# Altium schematic symbol library WE-CBF_0603.SchLib: 40 symbols
Pins are listed as number, name and electrical type; pins without a type are passive.

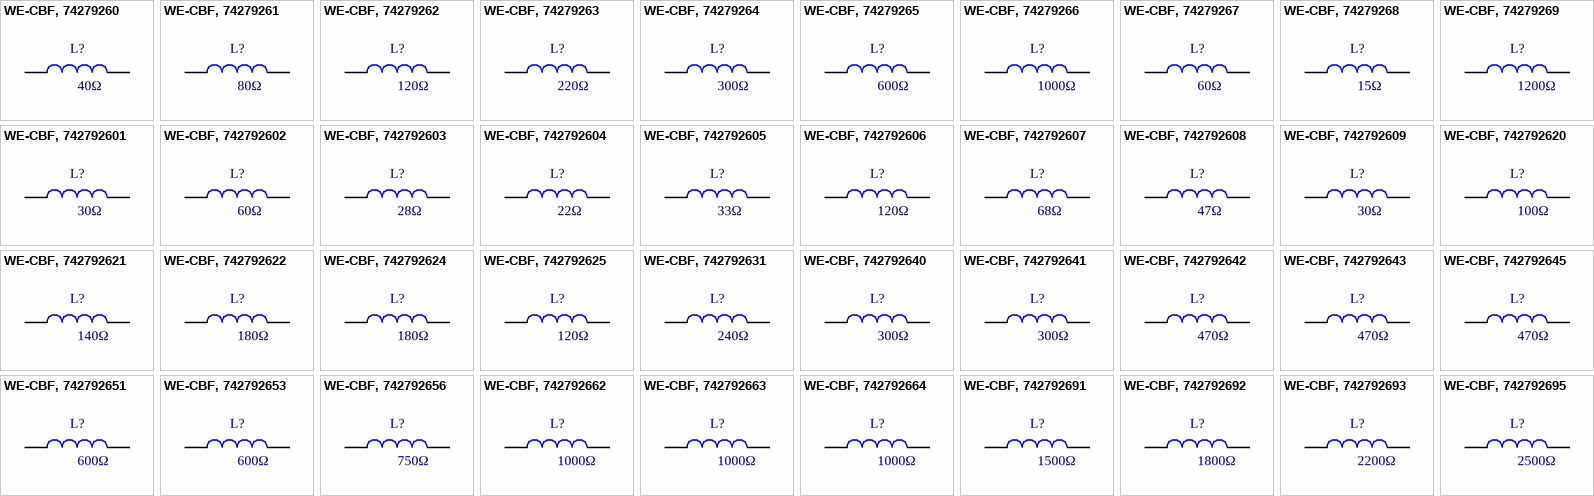
[diagram p0: symbols WE-CBF, 74279260 to WE-CBF, 742792695]

## WE-CBF, 74279260
designator L?, comment 40Ω
WE-CBF SMD EMI Suppression Ferrite Bead, 0603, 40Ω; PartNumber: 74279260; Type: High Speed; PublishedDate: Aug 2016; Publisher: Wurth Elektronik; ComponentLink1Description: Manufacturer; ComponentLink1URL: http://www.we-online.de; ComponentLink2Description: Datasheet; ComponentLink2URL: http://katalog.we-online.de/pbs/datasheet/74279260.pdf; Value: 40Ω; Size: 0603
footprint WE-CBF_0603_High Speed
pins: 1, 2

## WE-CBF, 74279261
designator L?, comment 80Ω
WE-CBF SMD EMI Suppression Ferrite Bead, 0603, 80Ω; PartNumber: 74279261; Type: High Speed; PublishedDate: Aug 2016; Publisher: Wurth Elektronik; ComponentLink1Description: Manufacturer; ComponentLink1URL: http://www.we-online.de; ComponentLink2Description: Datasheet; ComponentLink2URL: http://katalog.we-online.de/pbs/datasheet/74279261.pdf; Value: 80Ω; Size: 0603
footprint WE-CBF_0603_High Speed
pins: 1, 2

## WE-CBF, 74279262
designator L?, comment 120Ω
WE-CBF SMD EMI Suppression Ferrite Bead, 0603, 120Ω; PartNumber: 74279262; Type: Wide Band; PublishedDate: Aug 2016; Publisher: Wurth Elektronik; ComponentLink1Description: Manufacturer; ComponentLink1URL: http://www.we-online.de; ComponentLink2Description: Datasheet; ComponentLink2URL: http://katalog.we-online.de/pbs/datasheet/74279262.pdf; Value: 120Ω; Size: 0603
footprint WE-CBF_0603_Wide Band
pins: 1, 2

## WE-CBF, 74279263
designator L?, comment 220Ω
WE-CBF SMD EMI Suppression Ferrite Bead, 0603, 220Ω; PartNumber: 74279263; Type: Wide Band; PublishedDate: Aug 2016; Publisher: Wurth Elektronik; ComponentLink1Description: Manufacturer; ComponentLink1URL: http://www.we-online.de; ComponentLink2Description: Datasheet; ComponentLink2URL: http://katalog.we-online.de/pbs/datasheet/74279263.pdf; Value: 220Ω; Size: 0603
footprint WE-CBF_0603_Wide Band
pins: 1, 2

## WE-CBF, 74279264
designator L?, comment 300Ω
WE-CBF SMD EMI Suppression Ferrite Bead, 0603, 300Ω; PartNumber: 74279264; Type: High Speed; PublishedDate: Aug 2016; Publisher: Wurth Elektronik; ComponentLink1Description: Manufacturer; ComponentLink1URL: http://www.we-online.de; ComponentLink2Description: Datasheet; ComponentLink2URL: http://katalog.we-online.de/pbs/datasheet/74279264.pdf; Value: 300Ω; Size: 0603
footprint WE-CBF_0603_High Speed
pins: 1, 2

## WE-CBF, 74279265
designator L?, comment 600Ω
WE-CBF SMD EMI Suppression Ferrite Bead, 0603, 600Ω; PartNumber: 74279265; Type: Wide Band; PublishedDate: Aug 2016; Publisher: Wurth Elektronik; ComponentLink1Description: Manufacturer; ComponentLink1URL: http://www.we-online.de; ComponentLink2Description: Datasheet; ComponentLink2URL: http://katalog.we-online.de/pbs/datasheet/74279265.pdf; Value: 600Ω; Size: 0603
footprint WE-CBF_0603_Wide Band
pins: 1, 2

## WE-CBF, 74279266
designator L?, comment 1000Ω
WE-CBF SMD EMI Suppression Ferrite Bead, 0603, 1000Ω; PartNumber: 74279266; Type: Wide Band; PublishedDate: Aug 2016; Publisher: Wurth Elektronik; ComponentLink1Description: Manufacturer; ComponentLink1URL: http://www.we-online.de; ComponentLink2Description: Datasheet; ComponentLink2URL: http://katalog.we-online.de/pbs/datasheet/74279266.pdf; Value: 1000Ω; Size: 0603
footprint WE-CBF_0603_Wide Band
pins: 1, 2

## WE-CBF, 74279267
designator L?, comment 60Ω
WE-CBF SMD EMI Suppression Ferrite Bead, 0603, 60Ω; PartNumber: 74279267; Type: High Speed; PublishedDate: Aug 2016; Publisher: Wurth Elektronik; ComponentLink1Description: Manufacturer; ComponentLink1URL: http://www.we-online.de; ComponentLink2Description: Datasheet; ComponentLink2URL: http://katalog.we-online.de/pbs/datasheet/74279267.pdf; Value: 60Ω; Size: 0603
footprint WE-CBF_0603_High Speed
pins: 1, 2

## WE-CBF, 74279268
designator L?, comment 15Ω
WE-CBF SMD EMI Suppression Ferrite Bead, 0603, 15Ω; PartNumber: 74279268; Type: High Speed; PublishedDate: Aug 2016; Publisher: Wurth Elektronik; ComponentLink1Description: Manufacturer; ComponentLink1URL: http://www.we-online.de; ComponentLink2Description: Datasheet; ComponentLink2URL: http://katalog.we-online.de/pbs/datasheet/74279268.pdf; Value: 15Ω; Size: 0603
footprint WE-CBF_0603_High Speed
pins: 1, 2

## WE-CBF, 74279269
designator L?, comment 1200Ω
WE-CBF SMD EMI Suppression Ferrite Bead, 0603, 1200Ω; PartNumber: 74279269; Type: Wide Band; PublishedDate: Aug 2016; Publisher: Wurth Elektronik; ComponentLink1Description: Manufacturer; ComponentLink1URL: http://www.we-online.de; ComponentLink2Description: Datasheet; ComponentLink2URL: http://katalog.we-online.de/pbs/datasheet/74279269.pdf; Value: 1200Ω; Size: 0603
footprint WE-CBF_0603_Wide Band
pins: 1, 2

## WE-CBF, 742792601
designator L?, comment 30Ω
WE-CBF SMD EMI Suppression Ferrite Bead, 0603, 30Ω; PartNumber: 742792601; Type: High Current; PublishedDate: Aug 2016; Publisher: Wurth Elektronik; ComponentLink1Description: Manufacturer; ComponentLink1URL: http://www.we-online.de; ComponentLink2Description: Datasheet; ComponentLink2URL: http://katalog.we-online.de/pbs/datasheet/742792601.pdf; Value: 30Ω; Size: 0603
footprint WE-CBF_0603_High Current
pins: 1, 2

## WE-CBF, 742792602
designator L?, comment 60Ω
WE-CBF SMD EMI Suppression Ferrite Bead, 0603, 60Ω; PartNumber: 742792602; Type: High Current; PublishedDate: Aug 2016; Publisher: Wurth Elektronik; ComponentLink1Description: Manufacturer; ComponentLink1URL: http://www.we-online.de; ComponentLink2Description: Datasheet; ComponentLink2URL: http://katalog.we-online.de/pbs/datasheet/742792602.pdf; Value: 60Ω; Size: 0603
footprint WE-CBF_0603_High Current
pins: 1, 2

## WE-CBF, 742792603
designator L?, comment 28Ω
WE-CBF SMD EMI Suppression Ferrite Bead, 0603, 28Ω; PartNumber: 742792603; Type: High Current; PublishedDate: Aug 2016; Publisher: Wurth Elektronik; ComponentLink1Description: Manufacturer; ComponentLink1URL: http://www.we-online.de; ComponentLink2Description: Datasheet; ComponentLink2URL: http://katalog.we-online.de/pbs/datasheet/742792603.pdf; Value: 28Ω; Size: 0603
footprint WE-CBF_0603_High Current
pins: 1, 2

## WE-CBF, 742792604
designator L?, comment 22Ω
WE-CBF SMD EMI Suppression Ferrite Bead, 0603, 22Ω; PartNumber: 742792604; Type: High Current; PublishedDate: Aug 2016; Publisher: Wurth Elektronik; ComponentLink1Description: Manufacturer; ComponentLink1URL: http://www.we-online.de; ComponentLink2Description: Datasheet; ComponentLink2URL: http://katalog.we-online.de/pbs/datasheet/742792604.pdf; Value: 22Ω; Size: 0603
footprint WE-CBF_0603_High Current
pins: 1, 2

## WE-CBF, 742792605
designator L?, comment 33Ω
WE-CBF SMD EMI Suppression Ferrite Bead, 0603, 33Ω; PartNumber: 742792605; Type: High Speed; PublishedDate: Aug 2016; Publisher: Wurth Elektronik; ComponentLink1Description: Manufacturer; ComponentLink1URL: http://www.we-online.de; ComponentLink2Description: Datasheet; ComponentLink2URL: http://katalog.we-online.de/pbs/datasheet/742792605.pdf; Value: 33Ω; Size: 0603
footprint WE-CBF_0603_High Speed
pins: 1, 2

## WE-CBF, 742792606
designator L?, comment 120Ω
WE-CBF SMD EMI Suppression Ferrite Bead, 0603, 120Ω; PartNumber: 742792606; Type: High Speed; PublishedDate: Aug 2016; Publisher: Wurth Elektronik; ComponentLink1Description: Manufacturer; ComponentLink1URL: http://www.we-online.de; ComponentLink2Description: Datasheet; ComponentLink2URL: http://katalog.we-online.de/pbs/datasheet/742792606.pdf; Value: 120Ω; Size: 0603
footprint WE-CBF_0603_High Speed
pins: 1, 2

## WE-CBF, 742792607
designator L?, comment 68Ω
WE-CBF SMD EMI Suppression Ferrite Bead, 0603, 68Ω; PartNumber: 742792607; Type: High Speed; PublishedDate: Aug 2016; Publisher: Wurth Elektronik; ComponentLink1Description: Manufacturer; ComponentLink1URL: http://www.we-online.de; ComponentLink2Description: Datasheet; ComponentLink2URL: http://katalog.we-online.de/pbs/datasheet/742792607.pdf; Value: 68Ω; Size: 0603
footprint WE-CBF_0603_High Speed
pins: 1, 2

## WE-CBF, 742792608
designator L?, comment 47Ω
WE-CBF SMD EMI Suppression Ferrite Bead, 0603, 47Ω; PartNumber: 742792608; Type: High Speed; PublishedDate: Aug 2016; Publisher: Wurth Elektronik; ComponentLink1Description: Manufacturer; ComponentLink1URL: http://www.we-online.de; ComponentLink2Description: Datasheet; ComponentLink2URL: http://katalog.we-online.de/pbs/datasheet/742792608.pdf; Value: 47Ω; Size: 0603
footprint WE-CBF_0603_High Speed
pins: 1, 2

## WE-CBF, 742792609
designator L?, comment 30Ω
WE-CBF SMD EMI Suppression Ferrite Bead, 0603, 30Ω; PartNumber: 742792609; Type: High Current; PublishedDate: Aug 2016; Publisher: Wurth Elektronik; ComponentLink1Description: Manufacturer; ComponentLink1URL: http://www.we-online.de; ComponentLink2Description: Datasheet; ComponentLink2URL: http://katalog.we-online.de/pbs/datasheet/742792609.pdf; Value: 30Ω; Size: 0603
footprint WE-CBF_0603_High Current
pins: 1, 2

## WE-CBF, 742792620
designator L?, comment 100Ω
WE-CBF SMD EMI Suppression Ferrite Bead, 0603, 100Ω; PartNumber: 742792620; Type: Wide Band; PublishedDate: Aug 2016; Publisher: Wurth Elektronik; ComponentLink1Description: Manufacturer; ComponentLink1URL: http://www.we-online.de; ComponentLink2Description: Datasheet; ComponentLink2URL: http://katalog.we-online.de/pbs/datasheet/742792620.pdf; Value: 100Ω; Size: 0603
footprint WE-CBF_0603_Wide Band
pins: 1, 2

## WE-CBF, 742792621
designator L?, comment 140Ω
WE-CBF SMD EMI Suppression Ferrite Bead, 0603, 140Ω; PartNumber: 742792621; Type: High Speed; PublishedDate: Aug 2016; Publisher: Wurth Elektronik; ComponentLink1Description: Manufacturer; ComponentLink1URL: http://www.we-online.de; ComponentLink2Description: Datasheet; ComponentLink2URL: http://katalog.we-online.de/pbs/datasheet/742792621.pdf; Value: 140Ω; Size: 0603
footprint WE-CBF_0603_High Speed
pins: 1, 2

## WE-CBF, 742792622
designator L?, comment 180Ω
WE-CBF SMD EMI Suppression Ferrite Bead, 0603, 180Ω; PartNumber: 742792622; Type: Wide Band; PublishedDate: Aug 2016; Publisher: Wurth Elektronik; ComponentLink1Description: Manufacturer; ComponentLink1URL: http://www.we-online.de; ComponentLink2Description: Datasheet; ComponentLink2URL: http://katalog.we-online.de/pbs/datasheet/742792622.pdf; Value: 180Ω; Size: 0603
footprint WE-CBF_0603_Wide Band
pins: 1, 2

## WE-CBF, 742792624
designator L?, comment 180Ω
WE-CBF SMD EMI Suppression Ferrite Bead, 0603, 180Ω; PartNumber: 742792624; Type: High Current; PublishedDate: Aug 2016; Publisher: Wurth Elektronik; ComponentLink1Description: Manufacturer; ComponentLink1URL: http://www.we-online.de; ComponentLink2Description: Datasheet; ComponentLink2URL: http://katalog.we-online.de/pbs/datasheet/742792624.pdf; Value: 180Ω; Size: 0603
footprint WE-CBF_0603_High Current
pins: 1, 2

## WE-CBF, 742792625
designator L?, comment 120Ω
WE-CBF SMD EMI Suppression Ferrite Bead, 0603, 120Ω; PartNumber: 742792625; Type: High Current; PublishedDate: Aug 2016; Publisher: Wurth Elektronik; ComponentLink1Description: Manufacturer; ComponentLink1URL: http://www.we-online.de; ComponentLink2Description: Datasheet; ComponentLink2URL: http://katalog.we-online.de/pbs/datasheet/742792625.pdf; Value: 120Ω; Size: 0603
footprint WE-CBF_0603_High Current
pins: 1, 2

## WE-CBF, 742792631
designator L?, comment 240Ω
WE-CBF SMD EMI Suppression Ferrite Bead, 0603, 240Ω; PartNumber: 742792631; Type: Wide Band; PublishedDate: Aug 2016; Publisher: Wurth Elektronik; ComponentLink1Description: Manufacturer; ComponentLink1URL: http://www.we-online.de; ComponentLink2Description: Datasheet; ComponentLink2URL: http://katalog.we-online.de/pbs/datasheet/742792631.pdf; Value: 240Ω; Size: 0603
footprint WE-CBF_0603_Wide Band
pins: 1, 2

## WE-CBF, 742792640
designator L?, comment 300Ω
WE-CBF SMD EMI Suppression Ferrite Bead, 0603, 300Ω; PartNumber: 742792640; Type: High Speed; PublishedDate: Aug 2016; Publisher: Wurth Elektronik; ComponentLink1Description: Manufacturer; ComponentLink1URL: http://www.we-online.de; ComponentLink2Description: Datasheet; ComponentLink2URL: http://katalog.we-online.de/pbs/datasheet/742792640.pdf; Value: 300Ω; Size: 0603
footprint WE-CBF_0603_High Speed
pins: 1, 2

## WE-CBF, 742792641
designator L?, comment 300Ω
WE-CBF SMD EMI Suppression Ferrite Bead, 0603, 300Ω; PartNumber: 742792641; Type: High Current; PublishedDate: Aug 2016; Publisher: Wurth Elektronik; ComponentLink1Description: Manufacturer; ComponentLink1URL: http://www.we-online.de; ComponentLink2Description: Datasheet; ComponentLink2URL: http://katalog.we-online.de/pbs/datasheet/742792641.pdf; Value: 300Ω; Size: 0603
footprint WE-CBF_0603_High Current
pins: 1, 2

## WE-CBF, 742792642
designator L?, comment 470Ω
WE-CBF SMD EMI Suppression Ferrite Bead, 0603, 470Ω; PartNumber: 742792642; Type: Wide Band; PublishedDate: Aug 2016; Publisher: Wurth Elektronik; ComponentLink1Description: Manufacturer; ComponentLink1URL: http://www.we-online.de; ComponentLink2Description: Datasheet; ComponentLink2URL: http://katalog.we-online.de/pbs/datasheet/742792642.pdf; Value: 470Ω; Size: 0603
footprint WE-CBF_0603_Wide Band
pins: 1, 2

## WE-CBF, 742792643
designator L?, comment 470Ω
WE-CBF SMD EMI Suppression Ferrite Bead, 0603, 470Ω; PartNumber: 742792643; Type: High Speed; PublishedDate: Aug 2016; Publisher: Wurth Elektronik; ComponentLink1Description: Manufacturer; ComponentLink1URL: http://www.we-online.de; ComponentLink2Description: Datasheet; ComponentLink2URL: http://katalog.we-online.de/pbs/datasheet/742792643.pdf; Value: 470Ω; Size: 0603
footprint WE-CBF_0603_High Speed
pins: 1, 2

## WE-CBF, 742792645
designator L?, comment 470Ω
WE-CBF SMD EMI Suppression Ferrite Bead, 0603, 470Ω; PartNumber: 742792645; Type: High Current; PublishedDate: Aug 2016; Publisher: Wurth Elektronik; ComponentLink1Description: Manufacturer; ComponentLink1URL: http://www.we-online.de; ComponentLink2Description: Datasheet; ComponentLink2URL: http://katalog.we-online.de/pbs/datasheet/742792645.pdf; Value: 470Ω; Size: 0603
footprint WE-CBF_0603_High Current
pins: 1, 2

## WE-CBF, 742792651
designator L?, comment 600Ω
WE-CBF SMD EMI Suppression Ferrite Bead, 0603, 600Ω; PartNumber: 742792651; Type: High Current; PublishedDate: Aug 2016; Publisher: Wurth Elektronik; ComponentLink1Description: Manufacturer; ComponentLink1URL: http://www.we-online.de; ComponentLink2Description: Datasheet; ComponentLink2URL: http://katalog.we-online.de/pbs/datasheet/742792651.pdf; Value: 600Ω; Size: 0603
footprint WE-CBF_0603_High Current
pins: 1, 2

## WE-CBF, 742792653
designator L?, comment 600Ω
WE-CBF SMD EMI Suppression Ferrite Bead, 0603, 600Ω; PartNumber: 742792653; Type: High Speed; PublishedDate: Aug 2016; Publisher: Wurth Elektronik; ComponentLink1Description: Manufacturer; ComponentLink1URL: http://www.we-online.de; ComponentLink2Description: Datasheet; ComponentLink2URL: http://katalog.we-online.de/pbs/datasheet/742792653.pdf; Value: 600Ω; Size: 0603
footprint WE-CBF_0603_High Speed
pins: 1, 2

## WE-CBF, 742792656
designator L?, comment 750Ω
WE-CBF SMD EMI Suppression Ferrite Bead, 0603, 750Ω; PartNumber: 742792656; Type: Wide Band; PublishedDate: Aug 2016; Publisher: Wurth Elektronik; ComponentLink1Description: Manufacturer; ComponentLink1URL: http://www.we-online.de; ComponentLink2Description: Datasheet; ComponentLink2URL: http://katalog.we-online.de/pbs/datasheet/742792656.pdf; Value: 750Ω; Size: 0603
footprint WE-CBF_0603_Wide Band
pins: 1, 2

## WE-CBF, 742792662
designator L?, comment 1000Ω
WE-CBF SMD EMI Suppression Ferrite Bead, 0603, 1000Ω; PartNumber: 742792662; Type: Wide Band; PublishedDate: Aug 2016; Publisher: Wurth Elektronik; ComponentLink1Description: Manufacturer; ComponentLink1URL: http://www.we-online.de; ComponentLink2Description: Datasheet; ComponentLink2URL: http://katalog.we-online.de/pbs/datasheet/742792662.pdf; Value: 1000Ω; Size: 0603
footprint WE-CBF_0603_Wide Band
pins: 1, 2

## WE-CBF, 742792663
designator L?, comment 1000Ω
WE-CBF SMD EMI Suppression Ferrite Bead, 0603, 1000Ω; PartNumber: 742792663; Type: Wide Band; PublishedDate: Aug 2016; Publisher: Wurth Elektronik; ComponentLink1Description: Manufacturer; ComponentLink1URL: http://www.we-online.de; ComponentLink2Description: Datasheet; ComponentLink2URL: http://katalog.we-online.de/pbs/datasheet/742792663.pdf; Value: 1000Ω; Size: 0603
footprint WE-CBF_0603_Wide Band
pins: 1, 2

## WE-CBF, 742792664
designator L?, comment 1000Ω
WE-CBF SMD EMI Suppression Ferrite Bead, 0603, 1000Ω; PartNumber: 742792664; Type: High Speed; PublishedDate: Aug 2016; Publisher: Wurth Elektronik; ComponentLink1Description: Manufacturer; ComponentLink1URL: http://www.we-online.de; ComponentLink2Description: Datasheet; ComponentLink2URL: http://katalog.we-online.de/pbs/datasheet/742792664.pdf; Value: 1000Ω; Size: 0603
footprint WE-CBF_0603_High Speed
pins: 1, 2

## WE-CBF, 742792691
designator L?, comment 1500Ω
WE-CBF SMD EMI Suppression Ferrite Bead, 0603, 1500Ω; PartNumber: 742792691; Type: Wide Band; PublishedDate: Aug 2016; Publisher: Wurth Elektronik; ComponentLink1Description: Manufacturer; ComponentLink1URL: http://www.we-online.de; ComponentLink2Description: Datasheet; ComponentLink2URL: http://katalog.we-online.de/pbs/datasheet/742792691.pdf; Value: 1500Ω; Size: 0603
footprint WE-CBF_0603_Wide Band
pins: 1, 2

## WE-CBF, 742792692
designator L?, comment 1800Ω
WE-CBF SMD EMI Suppression Ferrite Bead, 0603, 1800Ω; PartNumber: 742792692; Type: Wide Band; PublishedDate: Aug 2016; Publisher: Wurth Elektronik; ComponentLink1Description: Manufacturer; ComponentLink1URL: http://www.we-online.de; ComponentLink2Description: Datasheet; ComponentLink2URL: http://katalog.we-online.de/pbs/datasheet/742792692.pdf; Value: 1800Ω; Size: 0603
footprint WE-CBF_0603_Wide Band
pins: 1, 2

## WE-CBF, 742792693
designator L?, comment 2200Ω
WE-CBF SMD EMI Suppression Ferrite Bead, 0603, 2200Ω; PartNumber: 742792693; Type: Wide Band; PublishedDate: Aug 2016; Publisher: Wurth Elektronik; ComponentLink1Description: Manufacturer; ComponentLink1URL: http://www.we-online.de; ComponentLink2Description: Datasheet; ComponentLink2URL: http://katalog.we-online.de/pbs/datasheet/742792693.pdf; Value: 2200Ω; Size: 0603
footprint WE-CBF_0603_Wide Band
pins: 1, 2

## WE-CBF, 742792695
designator L?, comment 2500Ω
WE-CBF SMD EMI Suppression Ferrite Bead, 0603, 2500Ω; PartNumber: 742792695; Type: Wide Band; PublishedDate: Aug 2016; Publisher: Wurth Elektronik; ComponentLink1Description: Manufacturer; ComponentLink1URL: http://www.we-online.de; ComponentLink2Description: Datasheet; ComponentLink2URL: http://katalog.we-online.de/pbs/datasheet/742792695.pdf; Value: 2500Ω; Size: 0603
footprint WE-CBF_0603_Wide Band
pins: 1, 2